# Altium footprint library Altium-OPTO.PcbLib: 22 footprints (part 2 of 2)
Each footprint in its own frame and in the unit in brackets; x right, y up, seen from the top. Pads: shape width x height; smd on the part's side, far side on the other; paste and mask are expansions set on the pad; w line width, h text height; cw(c..) or ccw(c..) is an arc to the next point about the centre after c.
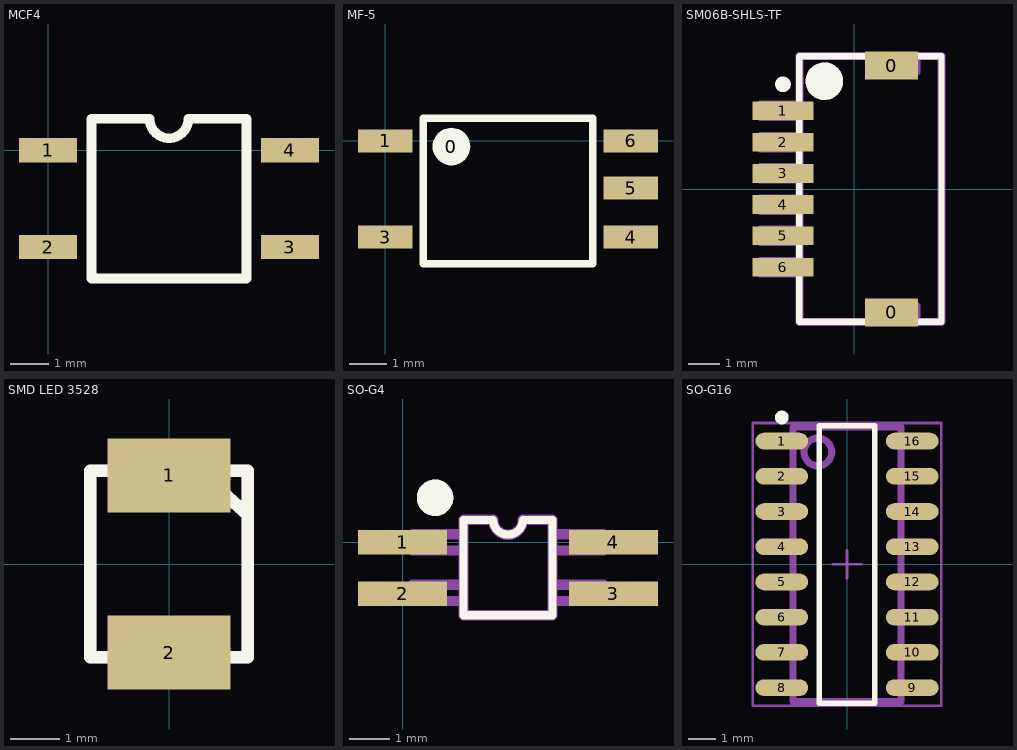
[diagram p1: the footprints below, top view; thin cyan lines are the x and y axes]

## MCF4 [mil]
height 78.74
pads (4):
  rect 60x25 smd: 1(0,0) 2(0,-100) 3(250,-100) 4(250,0)
Top Overlay:
  lines w10: 45,-132.5 205,-132.5 205,32.5 145,32.5 cw(c125,32.5) 105,32.5 45,32.5 45,-132.5
3D body: height 78.74, standoff 0, extent 40,-137.5 210,37.5

## MF-5 [mm] "5-pin mini flat package"
pads (6):
  round 1 on Top Overlay: 0(1.75,-0.15)
  rect 1.45x0.61 smd: 1(0,0) 3(0,-2.55) 4(6.5,-2.55) 5(6.5,-1.25) 6(6.5,0)
Top Overlay:
  lines w0.2: 1,-3.25 5.5,-3.25 5.5,0.6 1,0.6 1,-3.2

## SM06B-SHLS-TF [mm] "1.0mm pitch/Disconnectable Crimp style connectors"
height 1.75
pads (8):
  rect 1.7x0.9 smd: 0(1.2,-3.95) 0(1.2,3.95)
  rect 1.95x0.6 smd: 1(-2.275,2.5) 2(-2.275,1.5) 3(-2.275,0.5) 4(-2.275,-0.5) 5(-2.275,-1.5) 6(-2.275,-2.5)
Top Overlay:
  circle w0.25: c-2.275,3.35 r0.125
  circle w0.6: c-0.95,3.45 r0.3
  lines w0.2: -1.75,-4.25 -1.75,4.25 2.8,4.25 2.8,-4.25 -1.75,-4.25
Mechanical 13:
  circle w0.6: c-0.95,3.45 r0.3
  lines w0.254: -1.75,-2.7 -3,-2.7 -3,-2.3 -1.75,-2.3 ; -1.75,-1.7 -3,-1.7 -3,-1.3 -1.75,-1.3 ; -1.75,-0.7 -3,-0.7 -3,-0.3 -1.75,-0.3 ; -1.75,0.3 -3,0.3 -3,0.7 -1.75,0.7 ; -1.75,1.3 -3,1.3 -3,1.7 -1.75,1.7 ; -1.75,2.3 -3,2.3 -3,2.7 -1.75,2.7 ; -1.75,-4.25 -1.75,4.25 0.5,4.25 0.5,3.75 2,3.75 2,4.25 2.8,4.25 2.8,-4.25 2,-4.25 2,-3.75 0.5,-3.75 0.5,-4.25 -1.75,-4.25
  text ".Designator" at -1.825,5.1 h2
3D body: height 1.8, standoff 0.2, extent -1.75,-4.25 2.75,4.25

## SMD LED 3528 [mm] "Single SMD LED 3528"
pads (2):
  rect 2.5x1.5 smd: 1(0,1.8) 2(0,-1.8)
Top Overlay:
  lines w0.254: 0.6,1.9 1.6,1 ; -1.6,-1.9 1.6,-1.9 1.6,1.9 -1.6,1.9 -1.6,0 -1.6,-1.9
Mechanical 13:
  lines w0.254: 0.6,1.9 1.6,1 ; -1.6,-1.9 -1.6,0 -1.6,1.9 1.6,1.9 1.6,-1.9 -1.6,-1.9
  text ".designator" at -1.8,2.7 h1.52

## SO-G4 [mm]
height 1.65
pads (4):
  rect 2.2x0.6 smd: 1(0,0) 2(0,-1.27) 3(5.2,-1.27) 4(5.2,0)
Top Overlay:
  circle w0.5: c0.8,1.1 r0.2
  lines w0.2: 1.5,-1.8 1.5,0.555 2.233,0.555 ccw(c2.6,0.555) 2.967,0.555 3.7,0.555 3.7,-1.8 1.5,-1.8
Mechanical 13:
  circle w0.5: c0.8,1.1 r0.2
  lines w0.254: 1.5,-1.45 0.25,-1.45 0.25,-1.05 1.5,-1.05 ; 1.5,-0.2 0.25,-0.2 0.25,0.2 1.5,0.2 ; 3.7,-1.45 4.95,-1.45 4.95,-1.05 3.7,-1.05 ; 3.7,-0.2 4.95,-0.2 4.95,0.2 3.7,0.2 ; 1.5,-1.8 3.7,-1.8 3.7,0.555 2.967,0.555 cw(c2.6,0.555) 2.233,0.555 1.5,0.555 1.5,-1.8
  text ".Designator" at 0.025,-3.45 h2
3D body: height 1.65, standoff 0, extent 1.499,-1.8 3.7,0.556

## SO-G16 [mm] "SOIC, 16-Leads, Body 9.9x3.9mm, Pitch 1.27mm, IPC High Density"
height 1.75
pads (16):
  oval 1.9x0.6 smd: 1(-2.35,4.445) 2(-2.35,3.175) 3(-2.35,1.905) 4(-2.35,0.635) 5(-2.35,-0.635) 6(-2.35,-1.905) 7(-2.35,-3.175) 8(-2.35,-4.445) 9(2.35,-4.445) 10(2.35,-3.175) 11(2.35,-1.905) 12(2.35,-0.635) 13(2.35,0.635) 14(2.35,1.905) 15(2.35,3.175) 16(2.35,4.445)
Top Overlay:
  circle w0.25: c-2.35,5.295 r0.125
  lines w0.2: -1,-5 -1,5 1,5 1,-5 -1,-5
Mechanical 13:
  circle w0.254: c-1.05,4.05 r0.5
  lines w0.254: -1.956,4.318 -3.023,4.318 -3.023,4.572 -1.956,4.572 ; -1.95,-4.572 -3.017,-4.572 -3.017,-4.318 -1.95,-4.318 ; -1.95,-3.302 -3.017,-3.302 -3.017,-3.048 -1.95,-3.048 ; -1.95,-2.032 -3.017,-2.032 -3.017,-1.778 -1.95,-1.778 ; -1.95,-0.762 -3.017,-0.762 -3.017,-0.508 -1.95,-0.508 ; -1.95,0.508 -3.017,0.508 -3.017,0.762 -1.95,0.762 ; -1.95,1.778 -3.017,1.778 -3.017,2.032 -1.95,2.032 ; -1.95,3.048 -3.017,3.048 -3.017,3.302 -1.95,3.302 ; 1.95,-4.572 3.017,-4.572 3.017,-4.318 1.95,-4.318 ; 1.95,-3.302 3.017,-3.302 3.017,-3.048 1.95,-3.048 ; 1.95,-2.032 3.017,-2.032 3.017,-1.778 1.95,-1.778 ; 1.95,-0.762 3.017,-0.762 3.017,-0.508 1.95,-0.508 ; 1.95,0.508 3.017,0.508 3.017,0.762 1.95,0.762 ; 1.95,1.778 3.017,1.778 3.017,2.032 1.95,2.032 ; 1.95,3.048 3.017,3.048 3.017,3.302 1.95,3.302 ; 1.95,4.318 3.017,4.318 3.017,4.572 1.95,4.572 ; -1.95,-4.95 -1.95,4.95 1.95,4.95 1.95,-4.95 -1.95,-4.95
  text ".Designator" at -3.6,5.925 h2
Mechanical 15:
  lines w0.1: -0.5,0 0.5,0 ; 0,-0.5 0,0.5 ; -3.4,-5.1 -3.4,5.1 3.4,5.1 3.4,-5.1 -3.4,-5.1
3D body: height 1.53, standoff 0, extent -3,-4.95 3,4.95